# Altium schematic symbol library 野火_EBF6ULL B1 Pro 底板_原理图封装_AD格式.SCHLIB: 141 symbols (part 2 of 2)
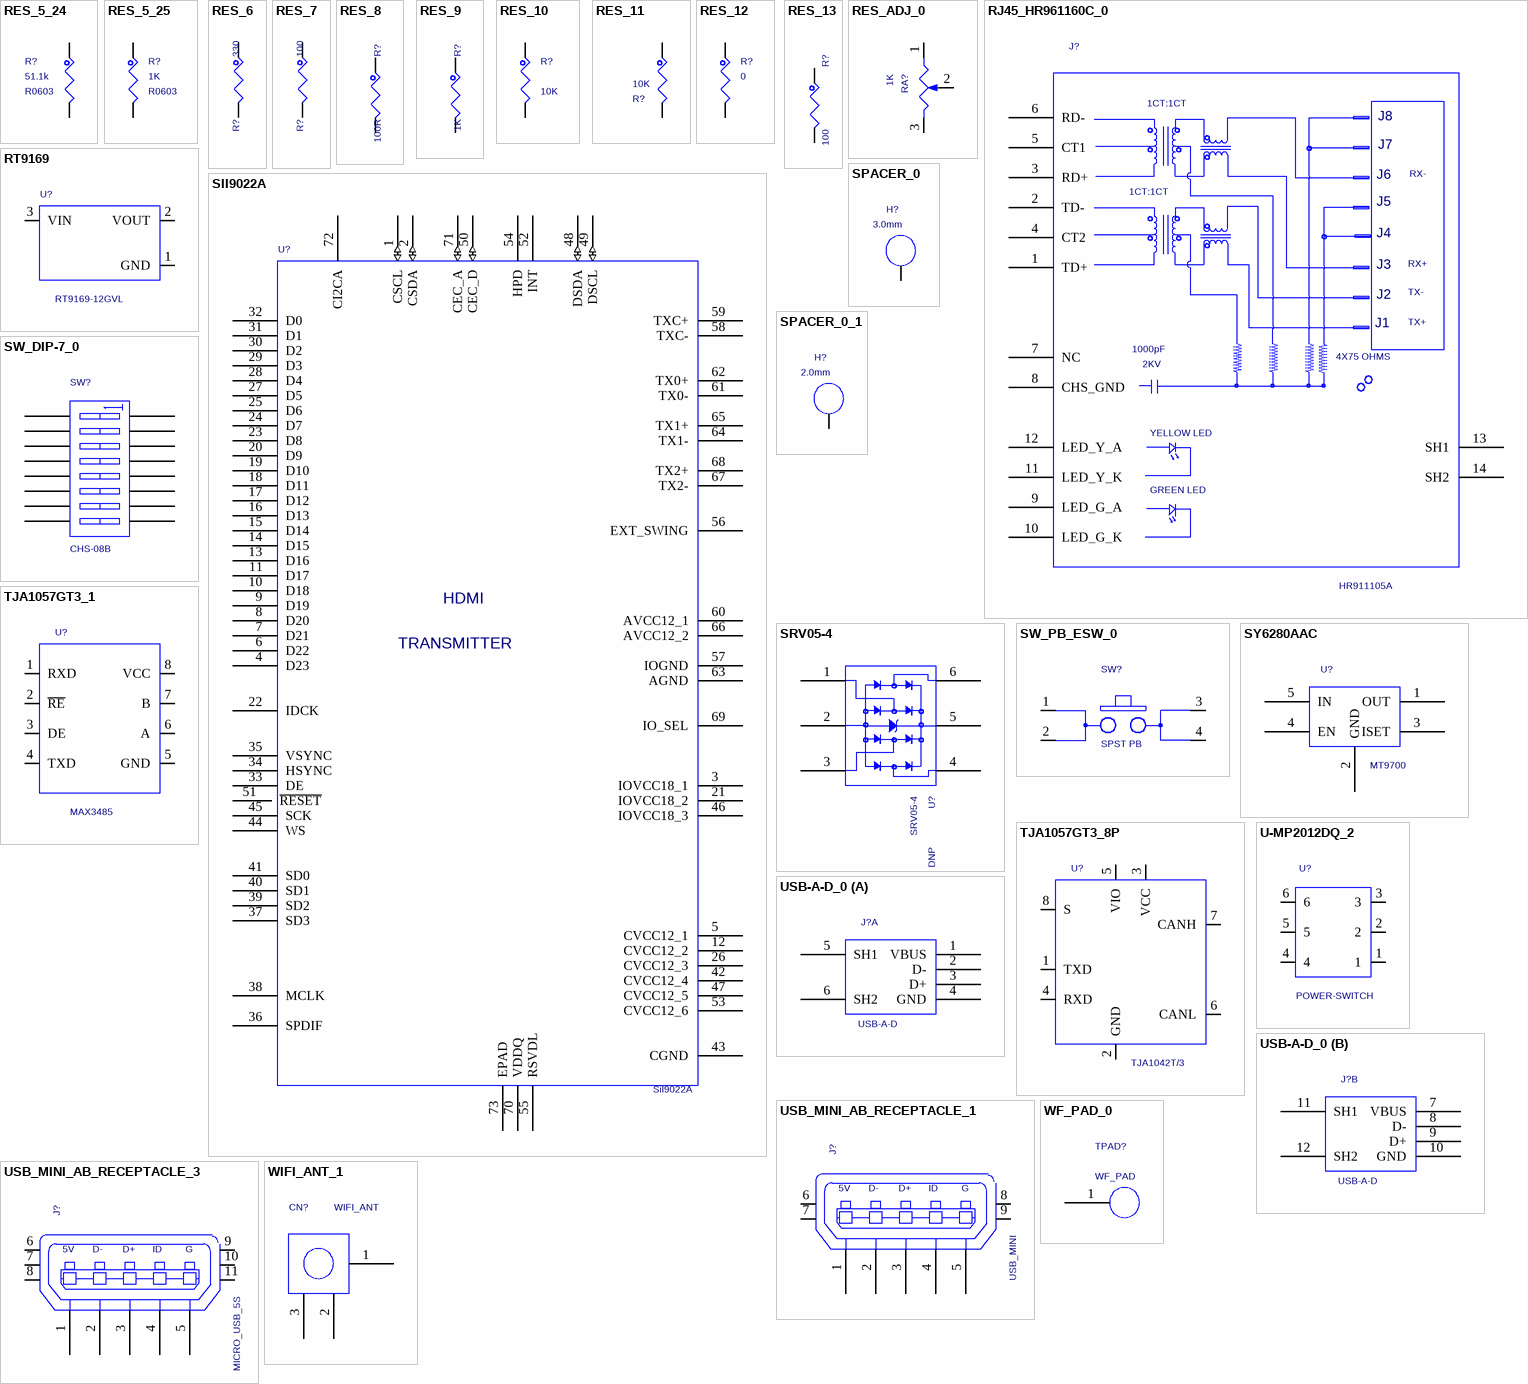
[diagram p5: symbols RES_5_24 to WIFI_ANT_1]

## U-MP2012DQ_2
designator U?  value POWER-SWITCH  (hidden comment: U-MP2012DQ_2)
PCB DECAL: SWITCH_DDSZ; Source_Path: H:\NXP_RT1050\SCH\IMXRT1052_MB.DSN
footprint SWITCH_DDSZ
pins: 1, 2, 3, 4, 5, 6

## USB-A-D_0
designator J?  value USB-A-D  (hidden comment: USB-A-D_0)
Source_Path: D:\NXP_RT1050\RT1050_MB_PRO\SCH\IMXRT1052_MB_PRO_0313.DSN; PCB DECAL: USB-A-D
footprint USB-A-D
part A pins: 1 VBUS, 2 D-, 3 D+, 4 GND, 5 SH1, 6 SH2
part B pins: 7 VBUS, 8 D-, 9 D+, 10 GND, 11 SH1, 12 SH2

## USB_MINI_AB_RECEPTACLE_1
designator J?  value USB_MINI  (hidden comment: USB_MINI_AB_RECEPTACLE_1)
CON 5 USB MICRO_AB RA SKT SMT 0.65MM SP 110H AU; AGILE_PN: 211-80104; MFG_NAME01: ANYTRONIC CORPORATION LIMITED; MFG_PN01: 23970101#LCP-58LF; Temp_Range: -55&#8451; to 105&#8451;; CAD_APPROVED: Yes; PCB DECAL: MINI_USB_5S; Source_Path: D:\NXP_RT1050\RT1050_MB_PRO\SCH\IMXRT1052_MB_PRO_0319.DSN; CLASS: IO; ROHS: Yes; HEIGHT: 2.8MM
footprint MINI_USB_5S
pins: 1 P1, 2 P2, 3 P3, 4 P4, 5 P5, 6 SHLD1, 7 SHLD3, 8 SHLD2, 9 SHLD4
text: 5V; D-; D+; ID; G

## USB_MINI_AB_RECEPTACLE_3
designator J?  value MICRO_USB_5S  (hidden comment: USB_MINI_AB_RECEPTACLE_3)
CON 5 USB MICRO_AB RA SKT SMT 0.65MM SP 110H AU; AGILE_PN: 211-80104; MFG_NAME01: ANYTRONIC CORPORATION LIMITED; MFG_PN01: 23970101#LCP-58LF; Temp_Range: -55&#8451; to 105&#8451;; CAD_APPROVED: Yes; Source_Path: D:\NXP_RT1050\RT1050_MB_PRO\SCH\IMXRT1052_MB_PRO_0418.DSN; CLASS: IO; PCB DECAL: MICRO_USB_5S; ROHS: Yes; HEIGHT: 2.8MM
footprint MICRO_USB_5S
pins: 1 P1, 2 P2, 3 P3, 4 P4, 5 P5, 6 SHLD1, 7 SHLD2, 8 SHLD3, 9 SHLD4, 10 SHLD5, 11 SHLD6
text: 5V; D-; D+; ID; G

## WF_PAD_0
designator TPAD?  value WF_PAD  (hidden comment: WF_PAD_0)
Source_Path: H:\NXP_RT1050\SCH\IMXRT1052_MB.DSN; PCB DECAL: WF_PAD
footprint WF_PAD
pins: 1

## WIFI_ANT_1
designator CN?  value WIFI_ANT  (hidden comment: WIFI_ANT_1)
PCB DECAL: UFL-3; Source_Path: H:\NXP_RT1050\SCH\IMXRT1052_MB.DSN
footprint UFL-3
pins: 1, 2, 3

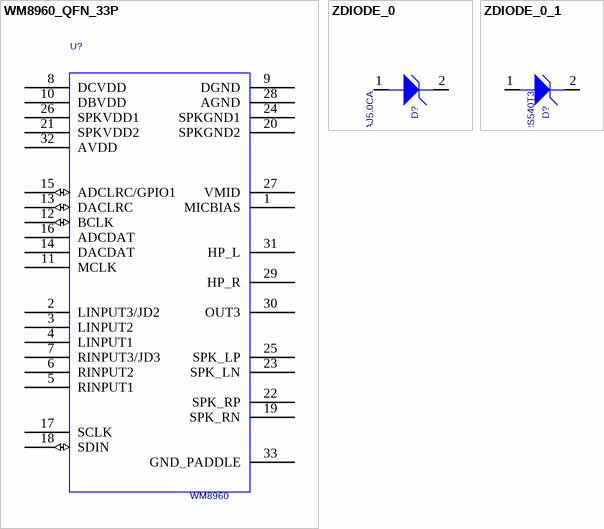
[diagram p4: symbols WM8960_QFN_33P to ZDIODE_0_1]

## WM8960_QFN_33P
designator U?  value WM8960  (hidden comment: WM8960_QFN_33P)
IC CODEC STEREO WITH CLASS D SPEAKER DRIVER 1.71-3.6V QFN32; CAD_APPROVED: Yes; MFG_PN01: WM8960CGEFL/RV; MFG_NAME01: WOLFSON MICROELECTRONICS; AGILE_PN: 315-79450; Source_Path: Q:\ORCADCIS\SYMBOLS\FCL_IC2.OLB; PCB DECAL: QFN32; HEIGHT: 1MM; ROHS: Yes; CLASS: IC
footprint QFN32
pins: 1 MICBIAS, 2 LINPUT3/JD2, 3 LINPUT2, 4 LINPUT1, 5 RINPUT1, 6 RINPUT2, 7 RINPUT3/JD3, 8 DCVDD (power), 9 DGND (power), 10 DBVDD (power), 11 MCLK, 12 BCLK (io), 13 DACLRC (io), 14 DACDAT, 15 ADCLRC/GPIO1 (io), 16 ADCDAT, 17 SCLK, 18 SDIN (io), 19 SPK_RN, 20 SPKGND2 (power), 21 SPKVDD2 (power), 22 SPK_RP, 23 SPK_LN, 24 SPKGND1 (power), 25 SPK_LP, 26 SPKVDD1 (power), 27 VMID, 28 AGND (power), 29 HP_R, 30 OUT3, 31 HP_L, 32 AVDD (power), 33 GND_PADDLE (power)

## ZDIODE_0
designator D?  value SMAJ5.0CA  (hidden comment: ZDIODE_0)
DIODE ZNR -- 0.2W 5.1V AEC-Q101 SOD523; CAD_APPROVED: Yes; MFG_PN01: MM5Z5V1ST1G; MFG_NAME01: ON SEMICONDUCTOR; AGILE_PN: 480-77217; PCB DECAL: DO214; Source_Path: H:\NXP_RT1050\SCH\IMXRT1052_MB.DSN; CLASS: IC; HEIGHT: 0.7MM; ROHS: Yes
footprint DO214
pins: 1 ANODE, 2 CATHODE

## ZDIODE_0_1
designator D?, comment value MBRS540T3  (hidden comment: ZDIODE_0)
DIODE ZNR -- 0.2W 5.1V AEC-Q101 SOD523; PCB DECAL: SMC; AGILE_PN: 480-77217; MFG_NAME01: ON SEMICONDUCTOR; MFG_PN01: MM5Z5V1ST1G; CAD_APPROVED: Yes; Source_Path: H:\NXP_RT1050\SCH\IMXRT1052_MB.DSN; CLASS: IC; ROHS: Yes; HEIGHT: 0.7MM
footprint SMC
pins: 1 ANODE, 2 CATHODE